# Altium schematic symbol library 61304011121-4.SchLib: 1 symbol
Pins are listed as number, name and electrical type; pins without a type are passive.

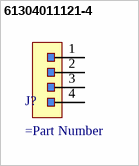
[diagram p0: symbol 61304011121-4]

## 61304011121-4
designator J?
=Description
pins: 1, 2, 3, 4